# Altium footprint library PCB - IND - COIL-XFL4020_V.PCBLIB: 1 footprints
Each footprint in its own frame and in the unit in brackets; x right, y up, seen from the top. Pads: shape width x height; smd on the part's side, far side on the other; paste and mask are expansions set on the pad; w line width, h text height; cw(c..) or ccw(c..) is an arc to the next point about the centre after c.
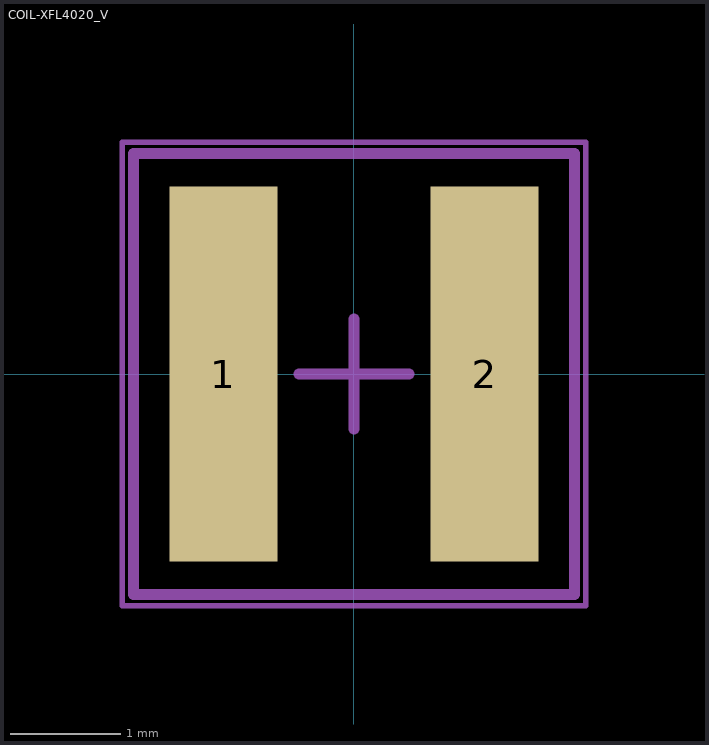
[diagram p0: the footprint, top view; thin cyan lines are the x and y axes]

## COIL-XFL4020_V [mm] "SMD, 2-Leads, Body 4x4mm, Pitch 2.37mm"
height 2.1
pads (2):
  rect 0.98x3.4 smd paste+0: 1(-1.185,0) 2(1.185,0)
M5 Assembly Top:
  lines w0.1: -2,-2 -2,2 2,2 2,-2 -2,-2
  text ".Designator" at -1.3,-0.8 h1.52
Mechanical 15:
  lines w0.05: -2.1,-2.1 -2.1,2.1 2.1,2.1 2.1,-2.1 -2.1,-2.1
  lines w0.1: -0.5,0 0.5,0 ; 0,-0.5 0,0.5
3D body: height 2.1, standoff 0, extent -1.999,-1.999 1.999,1.999